# EAGLE library part DIP4 (library custom-mechanical)
4-DIP Switch
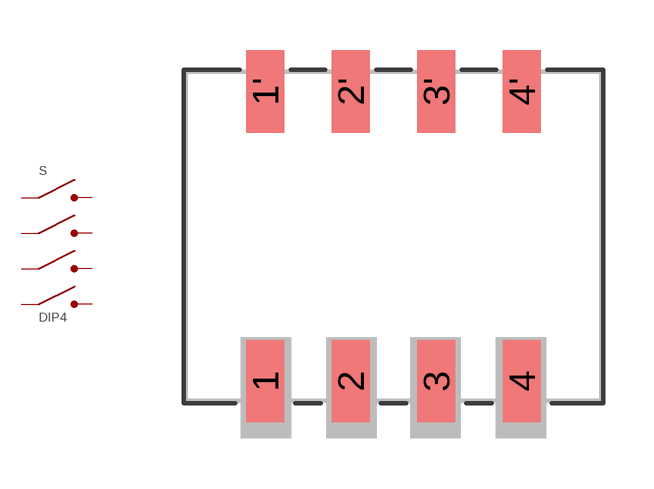
[diagram p0: symbol with the pads of CTS193_4; footprint CTS193_4]

Designator prefix S

## DIP4_CTS193  [CTS193_4]
1  1
1'  1'
2  2
2'  2'
3  3
3'  3'
4  4
4'  4'

## Footprint CTS193_4 (pad centres in mm)
smd 1.13 x 2.44: 1 -3.81,-4.046; 1' -3.81,4.554; 2 -1.27,-4.046; 2' -1.27,4.554; 3 1.27,-4.046; 3' 1.27,4.554; 4 3.81,-4.046; 4' 3.81,4.554